# EAGLE library part FLOPPY_INT (library Amiga)
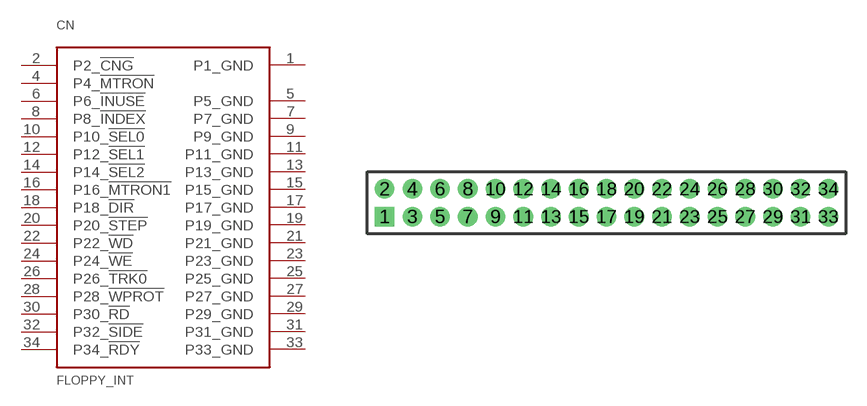
[diagram p32: symbol with the pads of 2X17M; footprint 2X17M]

Designator prefix CN

## FLOPPY_INT  [2X17M]
1  P1_GND  pwr
2  P2_!CNG!
4  P4_!MTRON
5  P5_GND  pwr
6  P6_!INUSE!
7  P7_GND  pwr
8  P8_!INDEX!
9  P9_GND  pwr
10  P10_!SEL0
11  P11_GND  pwr
12  P12_!SEL1
13  P13_GND  pwr
14  P14_!SEL2
15  P15_GND  pwr
16  P16_!MTRON1
17  P17_GND  pwr
18  P18_!DIR
19  P19_GND  pwr
20  P20_!STEP
21  P21_GND  pwr
22  P22_!WD
23  P23_GND  pwr
24  P24_!WE
25  P25_GND  pwr
26  P26_!TRK0
27  P27_GND  pwr
28  P28_!WPROT
29  P29_GND  pwr
30  P30_!RD
31  P31_GND  pwr
32  P32_!SIDE
33  P33_GND  pwr
34  P34_!RDY

## Footprint 2X17M (pad centres in mm)
drill 0.914 square: 1 -14.73,-1
drill 0.914: 2 -14.73,1; 3 -12.73,-1; 4 -12.73,1; 5 -10.73,-1; 6 -10.73,1; 7 -8.73,-1; 8 -8.73,1; 9 -6.73,-1; 10 -6.73,1; 11 -4.73,-1; 12 -4.73,1; 13 -2.73,-1; 14 -2.73,1; 15 -0.73,-1; 16 -0.73,1; 17 1.27,-1; 18 1.27,1; 19 3.27,-1; 20 3.27,1; 21 5.27,-1; 22 5.27,1; 23 7.27,-1; 24 7.27,1; 25 9.27,-1; 26 9.27,1; 27 11.27,-1; 28 11.27,1; 29 13.27,-1; 30 13.27,1; 31 15.27,-1; 32 15.27,1; 33 17.27,-1; 34 17.27,1